# EAGLE library part SWITCH-SLIDE_2C2P (library GClue)
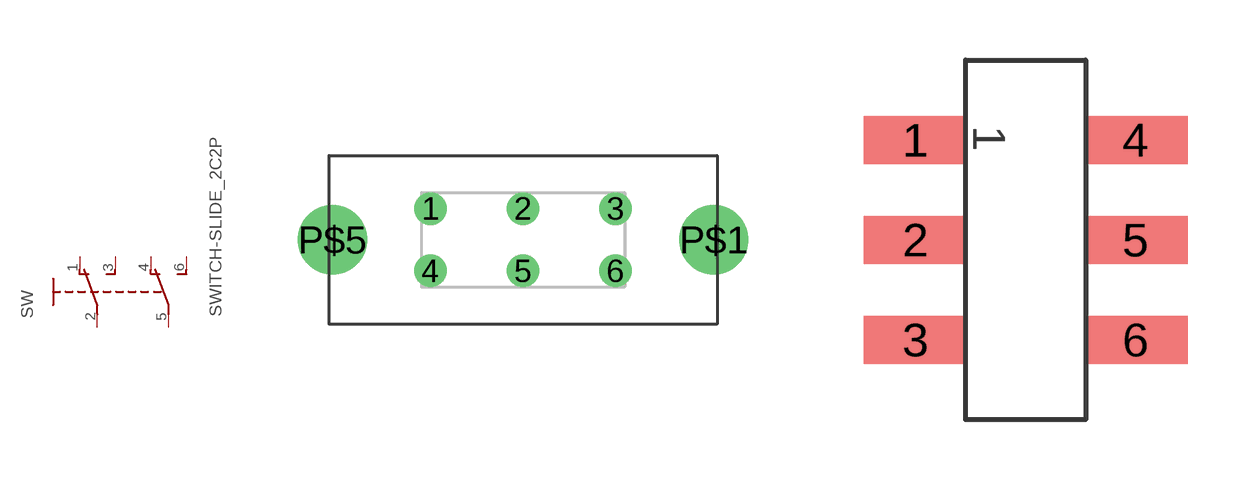
[diagram p14: symbol with the pads of SS22F06G5-G; footprints SS22F06G5-G, C&K_JS202011SCQN]

Designator prefix SW

## SWITCH-SLIDE_2C2P-SS22F06G5-G  [SS22F06G5-G]
1  1  pas
2  2  pas
3  3  pas
4  4  pas
5  5  pas
6  6  pas

## SWITCH-SLIDE_2C2P-JS202011SCQN  [C&K_JS202011SCQN]
Pads as for SS22F06G5-G

## Footprint SS22F06G5-G (pad centres in mm)
drill 0.9: 1 -4,1.35; 2 0,1.35; 3 4,1.35; 4 -4,-1.35; 5 0,-1.35; 6 4,-1.35
drill 2: P$1 8.25,0; P$5 -8.25,0

## Footprint C&K_JS202011SCQN (pad centres in mm)
smd 2.6 x 1.2: 1 -2.75,2.5; 2 -2.75,0; 3 -2.75,-2.5; 4 2.75,2.5; 5 2.75,0; 6 2.75,-2.5